# Altium schematic symbol library Cp0402.Schlib: 1 symbol
Pins are listed as number, name and electrical type; pins without a type are passive.

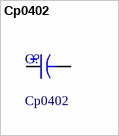
[diagram p0: symbol Cp0402]

## Cp0402
designator C?
0402 Polarized Chip Capacitor - Standard
pins: 1, 2